# Altium footprint library PCB_Library_1.PcbLib: 41 footprints (part 2 of 3)
Each footprint in its own frame and in the unit in brackets; x right, y up, seen from the top. Pads: shape width x height; smd on the part's side, far side on the other; paste and mask are expansions set on the pad; w line width, h text height; cw(c..) or ccw(c..) is an arc to the next point about the centre after c.
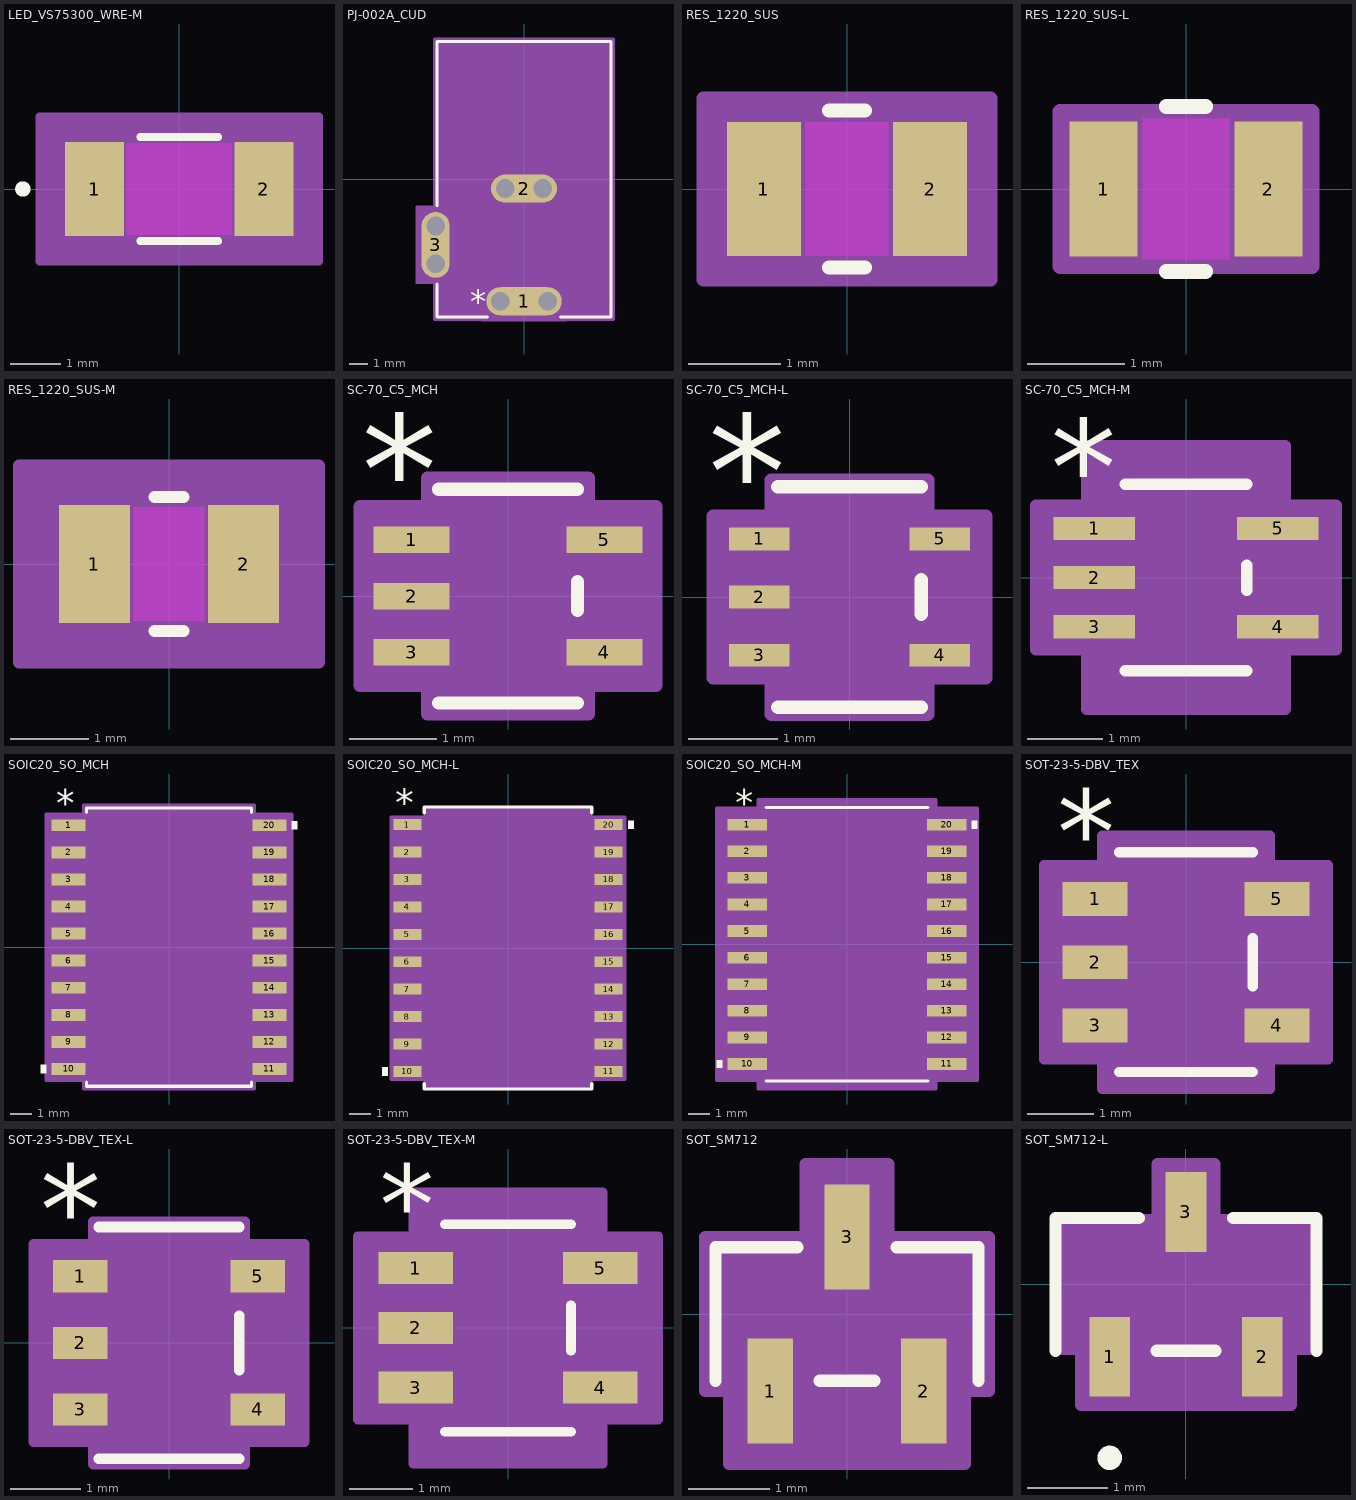
[diagram p1: the footprints below, top view; thin cyan lines are the x and y axes]

## LED_VS75300_WRE-M [mil]
pads (2):
  rect 46x73 smd paste+0 mask+0: 1(-66,0) 2(66,0)
Top Layer keep-out:
  region: -41,-33.5 -41,33.5 41,33.5 41,-33.5
Top Overlay:
  circle w6: c-122,0 r3
  lines w6: -30.53,-40.5 30.53,-40.5 ; -30.53,40.5 30.53,40.5
Keep-Out Layer:
  region: -41,-35.5 -41,35.5 41,35.5 41,-35.5
Mechanical 13:
  circle w0: c-61,0 r3
  lines w1: -67,-35.5 -67,35.5 ; -67,-35.5 -43,-35.5 -43,35.5 -67,35.5 ; -67,-35.5 67,-35.5 ; -67,-35.5 -67,35.5 ; -67,35.5 67,35.5 ; 67,-35.5 43,-35.5 43,35.5 67,35.5 ; 67,-35.5 67,35.5 ; 67,-35.5 67,35.5
Mechanical 15:
  region: 109,-56.5 -109,-56.5 -109,56.5 109,56.5
  lines w6: -109,-56.5 -109,56.5 109,56.5 109,-56.5 -109,-56.5
3D body "LED_VS75300_WRE.step": height 55, standoff 0, extent -67.01,-35.51 67.01,35.51

## PJ-002A_CUD [mil]
pads (9):
  oval 158x59 smd paste+0 mask+0: 1(0,-255.5)
  oval 138x59 smd paste+0 mask+0: 2(0,-19.5)
  oval 59x138 smd paste+0 mask+0: 3(-185,-137.5)
  round 39 / inner round 60 / far side round 39 hole 39 unplated paste-99999 mask-19.5: S_1_H1(49.5,-255.5) S_1_H2(-49.5,-255.5) S_2_H1(39.5,-19.5) S_2_H2(-39.5,-19.5) S_3_H1(-185,-98) S_3_H2(-185,-177)
Top Overlay:
  lines w6: -182,-219.49 -182,-288.5 -76.44,-288.5 ; -182,-55.51 -182,288.5 182,288.5 182,-288.5 76.44,-288.5
  text "*" at -112.5,-280.5 h50
Mechanical 13:
  lines w1: -177,-186.5 -193,-186.5 -193,-88.5 -177,-88.5 ; -177,-283.5 177,-283.5 177,283.5 -177,283.5 -177,-283.5
  text "*" at -112.5,-280.5 h50
Mechanical 15:
  region: 89,-293.5 187,-293.5 187,293.5 -187,293.5 -187,-58.5 -224.5,-58.5 -224.5,-216.5 -187,-216.5 -187,-293.5 -89,-293.5 -89,-295 89,-295
  lines w6: -224.5,-216.5 -187,-216.5 -187,-293.5 -89,-293.5 -89,-295 89,-295 89,-293.5 187,-293.5 187,293.5 -187,293.5 -187,-58.5 -224.5,-58.5 -224.5,-216.5
Multi-Layer:
  lines w39: -185,-177 -185,-98 ; -49.5,-255.5 49.5,-255.5 ; -39.5,-19.5 39.5,-19.5

## RES_1220_SUS [mm]
pads (2):
  rect 0.803x1.45 smd paste+0 mask+0: 1(-0.902,0) 2(0.902,0)
Top Layer keep-out:
  region: -0.449,-0.674 -0.449,0.674 0.449,0.674 0.449,-0.674
Top Overlay:
  lines w0.152: -0.192,-0.852 0.192,-0.852 ; -0.192,0.852 0.192,0.852
Keep-Out Layer:
  region: -0.449,-0.725 -0.449,0.725 0.449,0.725 0.449,-0.725
Mechanical 13:
  lines w0.025: -1.1,-0.725 -1.1,0.725 ; -1.1,-0.725 1.1,-0.725 ; -1.1,-0.725 -0.5,-0.725 -0.5,0.725 -1.1,0.725 ; -1.1,-0.725 -1.1,0.725 ; -1.1,0.725 1.1,0.725 ; 1.1,-0.725 1.1,0.725 ; 1.1,-0.725 1.1,0.725 ; 1.1,-0.725 0.5,-0.725 0.5,0.725 1.1,0.725
Mechanical 15:
  region: 1.557,-0.979 -1.557,-0.979 -1.557,0.979 1.557,0.979
  lines w0.152: -1.557,-0.979 1.557,-0.979 1.557,0.979 -1.557,0.979 -1.557,-0.979
3D body "RES_1220_SUS.step": height 0.7, standoff 0, extent -1.1,-0.725 1.1,0.725

## RES_1220_SUS-L [mil]
pads (2):
  rect 27.62x55.09 smd paste+0 mask+0: 1(-33.5,0) 2(33.5,0)
Top Layer keep-out:
  region: -17.68,-26.54 -17.68,26.54 17.68,26.54 17.68,-26.54
Top Overlay:
  lines w6: -8.04,-33.54 8.04,-33.54 ; -8.04,33.54 8.04,33.54
Keep-Out Layer:
  region: -17.68,-28.54 -17.68,28.54 17.68,28.54 17.68,-28.54
Mechanical 13:
  lines w1: -43.31,-28.54 -43.31,28.54 ; -43.31,-28.54 -19.68,-28.54 -19.68,28.54 -43.31,28.54 ; -43.31,-28.54 43.31,-28.54 ; -43.31,-28.54 -43.31,28.54 ; -43.31,28.54 43.31,28.54 ; 43.31,-28.54 19.68,-28.54 19.68,28.54 43.31,28.54 ; 43.31,-28.54 43.31,28.54 ; 43.31,-28.54 43.31,28.54
Mechanical 15:
  region: 51.31,-31.54 -51.31,-31.54 -51.31,31.54 51.31,31.54
  lines w6: -51.31,-31.54 -51.31,31.54 51.31,31.54 51.31,-31.54 -51.31,-31.54
3D body "RES_1220_SUS.step": height 27.56, standoff 0, extent -43.31,-28.54 43.31,28.54

## RES_1220_SUS-M [mil]
pads (2):
  rect 35.62x59.09 smd paste+0 mask+0: 1(-37.5,0) 2(37.5,0)
Top Layer keep-out:
  region: -17.68,-26.54 -17.68,26.54 17.68,26.54 17.68,-26.54
Top Overlay:
  lines w6: -7.21,-33.54 7.21,-33.54 ; -7.21,33.54 7.21,33.54
Keep-Out Layer:
  region: -17.68,-28.54 -17.68,28.54 17.68,28.54 17.68,-28.54
Mechanical 13:
  lines w1: -43.31,-28.54 -43.31,28.54 ; -43.31,-28.54 43.31,-28.54 ; -43.31,-28.54 -19.68,-28.54 -19.68,28.54 -43.31,28.54 ; -43.31,-28.54 -43.31,28.54 ; -43.31,28.54 43.31,28.54 ; 43.31,-28.54 43.31,28.54 ; 43.31,-28.54 43.31,28.54 ; 43.31,-28.54 19.68,-28.54 19.68,28.54 43.31,28.54
Mechanical 15:
  region: 75.31,-49.54 -75.31,-49.54 -75.31,49.54 75.31,49.54
  lines w6: -75.31,-49.54 75.31,-49.54 75.31,49.54 -75.31,49.54 -75.31,-49.54
3D body "RES_1220_SUS.step": height 27.56, standoff 0, extent -43.31,-28.54 43.31,28.54

## SC-70_C5_MCH [mil]
pads (5):
  rect 34.5x12 smd paste+0 mask+0: 1(-43.75,25.59) 2(-43.75,0) 3(-43.75,-25.59) 4(43.75,-25.59) 5(43.75,25.59)
Top Overlay:
  lines w6: -31.5,-48.5 31.5,-48.5 ; -31.5,48.5 31.5,48.5 ; 31.5,-6.49 31.5,6.49
  text "*" at -66.25,32.59 h50
Mechanical 13:
  lines w0: -12,43.5 ccw(c0,43.5) 12,43.5
  lines w1: -47,-31.59 -47,-19.59 -26.5,-19.59 -26.5,-31.59 -47,-31.59 ; -47,-6 -47,6 -26.5,6 -26.5,-6 -47,-6 ; -47,19.59 -47,31.59 -26.5,31.59 -26.5,19.59 -47,19.59 ; -26.5,-43.5 26.5,-43.5 26.5,43.5 -26.5,43.5 -26.5,-43.5 ; 26.5,-31.59 26.5,-19.59 47,-19.59 47,-31.59 26.5,-31.59 ; 26.5,19.59 26.5,31.59 47,31.59 47,19.59 26.5,19.59
  text "*" at -29,-10.41 h50
Mechanical 15:
  region: 36.5,-53.5 -36.5,-53.5 -36.5,-40.59 -67,-40.59 -67,40.59 -36.5,40.59 -36.5,53.5 36.5,53.5 36.5,40.59 67,40.59 67,-40.59 36.5,-40.59
  lines w6: -67,-40.59 -36.5,-40.59 -36.5,-53.5 36.5,-53.5 36.5,-40.59 67,-40.59 67,40.59 36.5,40.59 36.5,53.5 -36.5,53.5 -36.5,40.59 -67,40.59 -67,-40.59
3D body "SC-70_C5_MCH.step": height 43.11, standoff 0, extent -47.01,-43.5 47.01,43.5

## SC-70_C5_MCH-L [mil]
pads (5):
  rect 26.5x10 smd paste+0 mask+0: 1(-39.75,25.59) 2(-39.75,0) 3(-39.75,-25.59) 4(39.75,-25.59) 5(39.75,25.59)
Top Overlay:
  lines w6: -31.5,-48.5 31.5,-48.5 ; -31.5,48.5 31.5,48.5 ; 31.5,-7.49 31.5,7.49
  text "*" at -62.25,30.59 h50
Mechanical 13:
  lines w0: -12,43.5 ccw(c0,43.5) 12,43.5
  lines w1: -47,-31.59 -26.5,-31.59 -26.5,-19.59 -47,-19.59 -47,-31.59 ; -47,-6 -26.5,-6 -26.5,6 -47,6 -47,-6 ; -47,19.59 -26.5,19.59 -26.5,31.59 -47,31.59 -47,19.59 ; -26.5,-43.5 -26.5,43.5 26.5,43.5 26.5,-43.5 -26.5,-43.5 ; 26.5,-31.59 47,-31.59 47,-19.59 26.5,-19.59 26.5,-31.59 ; 26.5,19.59 47,19.59 47,31.59 26.5,31.59 26.5,19.59
  text "*" at -29,-12.41 h50
Mechanical 15:
  region: 34.5,-51.5 -34.5,-51.5 -34.5,-35.59 -60,-35.59 -60,35.59 -34.5,35.59 -34.5,51.5 34.5,51.5 34.5,35.59 60,35.59 60,-35.59 34.5,-35.59
  lines w6: -60,-35.59 -60,35.59 -34.5,35.59 -34.5,51.5 34.5,51.5 34.5,35.59 60,35.59 60,-35.59 34.5,-35.59 34.5,-51.5 -34.5,-51.5 -34.5,-35.59 -60,-35.59
3D body "SC-70_C5_MCH.step": height 43.11, standoff 0, extent -47.01,-43.5 47.01,43.5

## SC-70_C5_MCH-M [mil]
pads (5):
  rect 42.5x12 smd paste+0 mask+0: 1(-47.75,25.59) 2(-47.75,0) 3(-47.75,-25.59) 4(47.75,-25.59) 5(47.75,25.59)
Top Overlay:
  lines w6: -31.5,-48.5 31.5,-48.5 ; -31.5,48.5 31.5,48.5 ; 31.5,-6.49 31.5,6.49
  text "*" at -70.25,32.59 h50
Mechanical 13:
  lines w0: -12,43.5 ccw(c0,43.5) 12,43.5
  lines w1: -47,-31.59 -26.5,-31.59 -26.5,-19.59 -47,-19.59 -47,-31.59 ; -47,-6 -26.5,-6 -26.5,6 -47,6 -47,-6 ; -47,19.59 -26.5,19.59 -26.5,31.59 -47,31.59 -47,19.59 ; -26.5,-43.5 -26.5,43.5 26.5,43.5 26.5,-43.5 -26.5,-43.5 ; 26.5,-31.59 47,-31.59 47,-19.59 26.5,-19.59 26.5,-31.59 ; 26.5,19.59 47,19.59 47,31.59 26.5,31.59 26.5,19.59
  text "*" at -29,-10.41 h50
Mechanical 15:
  region: 51.5,-68.5 -51.5,-68.5 -51.5,-37.59 -78,-37.59 -78,37.59 -51.5,37.59 -51.5,68.5 51.5,68.5 51.5,37.59 78,37.59 78,-37.59 51.5,-37.59
  lines w6: -78,-37.59 -78,37.59 -51.5,37.59 -51.5,68.5 51.5,68.5 51.5,37.59 78,37.59 78,-37.59 51.5,-37.59 51.5,-68.5 -51.5,-68.5 -51.5,-37.59 -78,-37.59
3D body "SC-70_C5_MCH.step": height 43.11, standoff 0, extent -47.01,-43.5 47.01,43.5

## SOIC20_SO_MCH [mil]
pads (20):
  rect 63x22 smd paste+0 mask+0: 1(-185.5,225) 2(-185.5,175) 3(-185.5,125) 4(-185.5,75) 5(-185.5,25) 6(-185.5,-25) 7(-185.5,-75) 8(-185.5,-125) 9(-185.5,-175) 10(-185.5,-225) 11(185.5,-225) 12(185.5,-175) 13(185.5,-125) 14(185.5,-75) 15(185.5,-25) 16(185.5,25) 17(185.5,75) 18(185.5,125) 19(185.5,175) 20(185.5,225)
Top Overlay:
  region: 227,232.5 237,232.5 237,217.5 227,217.5
  region: -227,-217.5 -237,-217.5 -237,-232.5 -227,-232.5
  lines w6: -152.5,-249.01 -152.5,-257 152.5,-257 152.5,-249.01 ; -152.5,249.01 -152.5,257 152.5,257 152.5,249.01
  text "*" at -208,242 h50
Mechanical 13:
  lines w0: -12,252 ccw(c0,252) 12,252
  lines w1: -203,-235 -147.5,-235 -147.5,-215 -203,-215 -203,-235 ; -203,-185 -147.5,-185 -147.5,-165 -203,-165 -203,-185 ; -203,-135 -147.5,-135 -147.5,-115 -203,-115 -203,-135 ; -203,-85 -147.5,-85 -147.5,-65 -203,-65 -203,-85 ; -203,-35 -147.5,-35 -147.5,-15 -203,-15 -203,-35 ; -203,15 -147.5,15 -147.5,35 -203,35 -203,15 ; -203,65 -147.5,65 -147.5,85 -203,85 -203,65 ; -203,115 -147.5,115 -147.5,135 -203,135 -203,115 ; -203,165 -147.5,165 -147.5,185 -203,185 -203,165 ; -203,215 -147.5,215 -147.5,235 -203,235 -203,215 ; -147.5,-252 -147.5,252 147.5,252 147.5,-252 -147.5,-252 ; 147.5,-235 203,-235 203,-215 147.5,-215 147.5,-235 ; 147.5,-185 203,-185 203,-165 147.5,-165 147.5,-185 ; 147.5,-135 203,-135 203,-115 147.5,-115 147.5,-135 ; 147.5,-85 203,-85 203,-65 147.5,-65 147.5,-85 ; 147.5,-35 203,-35 203,-15 147.5,-15 147.5,-35 ; 147.5,15 203,15 203,35 147.5,35 147.5,15 ; 147.5,65 203,65 203,85 147.5,85 147.5,65 ; 147.5,115 203,115 203,135 147.5,135 147.5,115 ; 147.5,165 203,165 203,185 147.5,185 147.5,165 ; 147.5,215 203,215 203,235 147.5,235 147.5,215
  text "*" at -145,199 h50
Mechanical 15:
  region: -157.5,-246 -227,-246 -227,246 -157.5,246 -157.5,262 157.5,262 157.5,246 227,246 227,-246 157.5,-246 157.5,-262 -157.5,-262
  lines w6: -227,-246 -157.5,-246 -157.5,-262 157.5,-262 157.5,-246 227,-246 227,246 157.5,246 157.5,262 -157.5,262 -157.5,246 -227,246 -227,-246
3D body "SOIC20_SO_MCH.step": height 104.09, standoff 0, extent -202.99,-252.01 202.99,252.01

## SOIC20_SO_MCH-L [mil]
pads (20):
  rect 51x20 smd paste+0 mask+0: 1(-183.5,225) 2(-183.5,175) 3(-183.5,125) 4(-183.5,75) 5(-183.5,25) 6(-183.5,-25) 7(-183.5,-75) 8(-183.5,-125) 9(-183.5,-175) 10(-183.5,-225) 11(183.5,-225) 12(183.5,-175) 13(183.5,-125) 14(183.5,-75) 15(183.5,-25) 16(183.5,25) 17(183.5,75) 18(183.5,125) 19(183.5,175) 20(183.5,225)
Top Overlay:
  region: 219,232.5 229,232.5 229,217.5 219,217.5
  region: -219,-217.5 -229,-217.5 -229,-232.5 -219,-232.5
  lines w6: -152.5,-246.89 -152.5,-257 152.5,-257 152.5,-246.89 ; -152.5,246.89 -152.5,257 152.5,257 152.5,246.89
  text "*" at -206,240 h50
Mechanical 13:
  lines w0: -12,252 ccw(c0,252) 12,252
  lines w1: -203,-235 -147.5,-235 -147.5,-215 -203,-215 -203,-235 ; -203,-185 -147.5,-185 -147.5,-165 -203,-165 -203,-185 ; -203,-135 -147.5,-135 -147.5,-115 -203,-115 -203,-135 ; -203,-85 -147.5,-85 -147.5,-65 -203,-65 -203,-85 ; -203,-35 -147.5,-35 -147.5,-15 -203,-15 -203,-35 ; -203,15 -147.5,15 -147.5,35 -203,35 -203,15 ; -203,65 -147.5,65 -147.5,85 -203,85 -203,65 ; -203,115 -147.5,115 -147.5,135 -203,135 -203,115 ; -203,165 -147.5,165 -147.5,185 -203,185 -203,165 ; -203,215 -147.5,215 -147.5,235 -203,235 -203,215 ; -147.5,-252 -147.5,252 147.5,252 147.5,-252 -147.5,-252 ; 147.5,-235 203,-235 203,-215 147.5,-215 147.5,-235 ; 147.5,-185 203,-185 203,-165 147.5,-165 147.5,-185 ; 147.5,-135 203,-135 203,-115 147.5,-115 147.5,-135 ; 147.5,-85 203,-85 203,-65 147.5,-65 147.5,-85 ; 147.5,-35 203,-35 203,-15 147.5,-15 147.5,-35 ; 147.5,15 203,15 203,35 147.5,35 147.5,15 ; 147.5,65 203,65 203,85 147.5,85 147.5,65 ; 147.5,115 203,115 203,135 147.5,135 147.5,115 ; 147.5,165 203,165 203,185 147.5,185 147.5,165 ; 147.5,215 203,215 203,235 147.5,235 147.5,215
  text "*" at -145,199 h50
Mechanical 15:
  region: -151.5,-239 -213,-239 -213,239 -151.5,239 -151.5,256 151.5,256 151.5,239 213,239 213,-239 151.5,-239 151.5,-256 -151.5,-256
  lines w6: -213,-239 -151.5,-239 -151.5,-256 151.5,-256 151.5,-239 213,-239 213,239 151.5,239 151.5,256 -151.5,256 -151.5,239 -213,239 -213,-239
3D body "SOIC20_SO_MCH.step": height 104.09, standoff 0, extent -202.99,-252.01 202.99,252.01

## SOIC20_SO_MCH-M [mil]
pads (20):
  rect 75x22 smd paste+0 mask+0: 1(-187.5,225) 2(-187.5,175) 3(-187.5,125) 4(-187.5,75) 5(-187.5,25) 6(-187.5,-25) 7(-187.5,-75) 8(-187.5,-125) 9(-187.5,-175) 10(-187.5,-225) 11(187.5,-225) 12(187.5,-175) 13(187.5,-125) 14(187.5,-75) 15(187.5,-25) 16(187.5,25) 17(187.5,75) 18(187.5,125) 19(187.5,175) 20(187.5,225)
Top Overlay:
  region: -235,-217.5 -245,-217.5 -245,-232.5 -235,-232.5
  region: 235,232.5 245,232.5 245,217.5 235,217.5
  lines w6: -152.5,-257 152.5,-257 ; -152.5,257 152.5,257
  text "*" at -210,242 h50
Mechanical 13:
  lines w0: -12,252 ccw(c0,252) 12,252
  lines w1: -203,-235 -203,-215 -147.5,-215 -147.5,-235 -203,-235 ; -203,-185 -203,-165 -147.5,-165 -147.5,-185 -203,-185 ; -203,-135 -203,-115 -147.5,-115 -147.5,-135 -203,-135 ; -203,-85 -203,-65 -147.5,-65 -147.5,-85 -203,-85 ; -203,-35 -203,-15 -147.5,-15 -147.5,-35 -203,-35 ; -203,15 -203,35 -147.5,35 -147.5,15 -203,15 ; -203,65 -203,85 -147.5,85 -147.5,65 -203,65 ; -203,115 -203,135 -147.5,135 -147.5,115 -203,115 ; -203,165 -203,185 -147.5,185 -147.5,165 -203,165 ; -203,215 -203,235 -147.5,235 -147.5,215 -203,215 ; -147.5,-252 147.5,-252 147.5,252 -147.5,252 -147.5,-252 ; 147.5,-235 147.5,-215 203,-215 203,-235 147.5,-235 ; 147.5,-185 147.5,-165 203,-165 203,-185 147.5,-185 ; 147.5,-135 147.5,-115 203,-115 203,-135 147.5,-135 ; 147.5,-85 147.5,-65 203,-65 203,-85 147.5,-85 ; 147.5,-35 147.5,-15 203,-15 203,-35 147.5,-35 ; 147.5,15 147.5,35 203,35 203,15 147.5,15 ; 147.5,65 147.5,85 203,85 203,65 147.5,65 ; 147.5,115 147.5,135 203,135 203,115 147.5,115 ; 147.5,165 147.5,185 203,185 203,165 147.5,165 ; 147.5,215 147.5,235 203,235 203,215 147.5,215
  text "*" at -145,199 h50
Mechanical 15:
  region: -167.5,-256 -245,-256 -245,256 -167.5,256 -167.5,272 167.5,272 167.5,256 245,256 245,-256 167.5,-256 167.5,-272 -167.5,-272
  lines w6: -245,-256 -245,256 -167.5,256 -167.5,272 167.5,272 167.5,256 245,256 245,-256 167.5,-256 167.5,-272 -167.5,-272 -167.5,-256 -245,-256
3D body "SOIC20_SO_MCH.step": height 104.09, standoff 0, extent -202.99,-252.01 202.99,252.01

## SOT-23-5-DBV_TEX [mil]
pads (5):
  rect 38.5x20 smd paste+0 mask+0: 1(-53.75,37.4) 2(-53.75,0) 3(-53.75,-37.4) 4(53.75,-37.4) 5(53.75,37.4)
Top Overlay:
  lines w6: -39.5,-65 39.5,-65 ; -39.5,65 39.5,65 ; 39.5,-14.3 39.5,14.3
  text "*" at -76.25,52.4 h50
Mechanical 13:
  lines w0: -12,60 ccw(c0,60) 12,60
  lines w1: -59,-47.4 -34.5,-47.4 -34.5,-27.4 -59,-27.4 -59,-47.4 ; -59,-10 -34.5,-10 -34.5,10 -59,10 -59,-10 ; -59,27.4 -34.5,27.4 -34.5,47.4 -59,47.4 -59,27.4 ; -34.5,-60 -34.5,60 34.5,60 34.5,-60 -34.5,-60 ; 34.5,-47.4 59,-47.4 59,-27.4 34.5,-27.4 34.5,-47.4 ; 34.5,27.4 59,27.4 59,47.4 34.5,47.4 34.5,27.4
  text "*" at -37,9.4 h50
Mechanical 15:
  region: 49.5,-75 -49.5,-75 -49.5,-57.4 -84,-57.4 -84,57.4 -49.5,57.4 -49.5,75 49.5,75 49.5,57.4 84,57.4 84,-57.4 49.5,-57.4
  lines w6: -84,-57.4 -84,57.4 -49.5,57.4 -49.5,75 49.5,75 49.5,57.4 84,57.4 84,-57.4 49.5,-57.4 49.5,-75 -49.5,-75 -49.5,-57.4 -84,-57.4
3D body "SOT-23-5-DBV_TEX.step": height 43.11, standoff 0, extent -59.02,-60 59.02,60

## SOT-23-5-DBV_TEX-L [mil]
pads (5):
  rect 30.5x18 smd paste+0 mask+0: 1(-49.75,37.4) 2(-49.75,0) 3(-49.75,-37.4) 4(49.75,-37.4) 5(49.75,37.4)
Top Overlay:
  lines w6: -39.5,-65 39.5,-65 ; -39.5,65 39.5,65 ; 39.5,-15.3 39.5,15.3
  text "*" at -72.25,50.4 h50
Mechanical 13:
  lines w0: -12,60 ccw(c0,60) 12,60
  lines w1: -59,-47.4 -59,-27.4 -34.5,-27.4 -34.5,-47.4 -59,-47.4 ; -59,-10 -59,10 -34.5,10 -34.5,-10 -59,-10 ; -59,27.4 -59,47.4 -34.5,47.4 -34.5,27.4 -59,27.4 ; -34.5,-60 34.5,-60 34.5,60 -34.5,60 -34.5,-60 ; 34.5,-47.4 34.5,-27.4 59,-27.4 59,-47.4 34.5,-47.4 ; 34.5,27.4 34.5,47.4 59,47.4 59,27.4 34.5,27.4
  text "*" at -37,7.4 h50
Mechanical 15:
  region: 42.5,-68 -42.5,-68 -42.5,-55.4 -76,-55.4 -76,55.4 -42.5,55.4 -42.5,68 42.5,68 42.5,55.4 76,55.4 76,-55.4 42.5,-55.4
  lines w6: -76,-55.4 -42.5,-55.4 -42.5,-68 42.5,-68 42.5,-55.4 76,-55.4 76,55.4 42.5,55.4 42.5,68 -42.5,68 -42.5,55.4 -76,55.4 -76,-55.4
3D body "SOT-23-5-DBV_TEX.step": height 43.11, standoff 0, extent -59.02,-60 59.02,60

## SOT-23-5-DBV_TEX-M [mil]
pads (5):
  rect 46.5x20 smd paste+0 mask+0: 1(-57.75,37.4) 2(-57.75,0) 3(-57.75,-37.4) 4(57.75,-37.4) 5(57.75,37.4)
Top Overlay:
  lines w6: -39.5,-65 39.5,-65 ; -39.5,65 39.5,65 ; 39.5,-14.3 39.5,14.3
  text "*" at -80.25,52.4 h50
Mechanical 13:
  lines w0: -12,60 ccw(c0,60) 12,60
  lines w1: -59,-47.4 -34.5,-47.4 -34.5,-27.4 -59,-27.4 -59,-47.4 ; -59,-10 -34.5,-10 -34.5,10 -59,10 -59,-10 ; -59,27.4 -34.5,27.4 -34.5,47.4 -59,47.4 -59,27.4 ; -34.5,-60 -34.5,60 34.5,60 34.5,-60 -34.5,-60 ; 34.5,-47.4 59,-47.4 59,-27.4 34.5,-27.4 34.5,-47.4 ; 34.5,27.4 59,27.4 59,47.4 34.5,47.4 34.5,27.4
  text "*" at -37,9.4 h50
Mechanical 15:
  region: 59.5,-85 -59.5,-85 -59.5,-57.4 -94,-57.4 -94,57.4 -59.5,57.4 -59.5,85 59.5,85 59.5,57.4 94,57.4 94,-57.4 59.5,-57.4
  lines w6: -94,-57.4 -94,57.4 -59.5,57.4 -59.5,85 59.5,85 59.5,57.4 94,57.4 94,-57.4 59.5,-57.4 59.5,-85 -59.5,-85 -59.5,-57.4 -94,-57.4
3D body "SOT-23-5-DBV_TEX.step": height 43.11, standoff 0, extent -59.02,-60 59.02,60

## SOT_SM712 [mil]
pads (3):
  rect 22x51 smd paste+0 mask+0: 1(-37.4,-37.5) 2(37.4,-37.5) 3(0,37.5)
Top Overlay:
  lines w6: -64,-32.5 -64,32.5 -24.1,32.5 ; -13.3,-32.5 13.3,-32.5 ; 24.1,32.5 64,32.5 64,-32.5
Mechanical 13:
  lines w1: -59,-27.5 -59,27.5 59,27.5 59,-27.5 -59,-27.5 ; -47.4,-49 -27.4,-49 -27.4,-27.5 -47.4,-27.5 -47.4,-49 ; -10,27.5 -10,49 10,49 10,27.5 -10,27.5 ; 27.4,-49 47.4,-49 47.4,-27.5 27.4,-27.5 27.4,-49
Mechanical 15:
  region: -69,-37.5 -69,37.5 -20,37.5 -20,73 20,73 20,37.5 69,37.5 69,-37.5 57.4,-37.5 57.4,-73 -57.4,-73 -57.4,-37.5
  lines w6: -69,-37.5 -57.4,-37.5 -57.4,-73 57.4,-73 57.4,-37.5 69,-37.5 69,37.5 20,37.5 20,73 -20,73 -20,37.5 -69,37.5 -69,-37.5
3D body "SOT_SM712.step": height 46.1, standoff 0, extent -59.02,-49.02 59.02,49.02

## SOT_SM712-L [mil]
pads (3):
  rect 20x39 smd paste+0 mask+0: 1(-37.4,-35.5) 2(37.4,-35.5) 3(0,35.5)
Top Overlay:
  circle w6: c-37.4,-85 r3
  lines w6: -64,-32.5 -64,32.5 -23.1,32.5 ; -14.3,-32.5 14.3,-32.5 ; 23.1,32.5 64,32.5 64,-32.5
Mechanical 13:
  circle w0: c-37.4,-17.5 r3
  lines w1: -59,-27.5 59,-27.5 59,27.5 -59,27.5 -59,-27.5 ; -47.4,-49 -47.4,-27.5 -27.4,-27.5 -27.4,-49 -47.4,-49 ; -10,27.5 10,27.5 10,49 -10,49 -10,27.5 ; 27.4,-49 27.4,-27.5 47.4,-27.5 47.4,-49 27.4,-49
Mechanical 15:
  region: -63,-31.5 -63,31.5 -14,31.5 -14,59 14,59 14,31.5 63,31.5 63,-31.5 51.4,-31.5 51.4,-59 -51.4,-59 -51.4,-31.5
  lines w6: -63,-31.5 -63,31.5 -14,31.5 -14,59 14,59 14,31.5 63,31.5 63,-31.5 51.4,-31.5 51.4,-59 -51.4,-59 -51.4,-31.5 -63,-31.5
3D body "SOT_SM712.step": height 46.1, standoff 0, extent -59.02,-49.02 59.02,49.02